# EAGLE library part 10M16SCE144 (library kiks-ic)
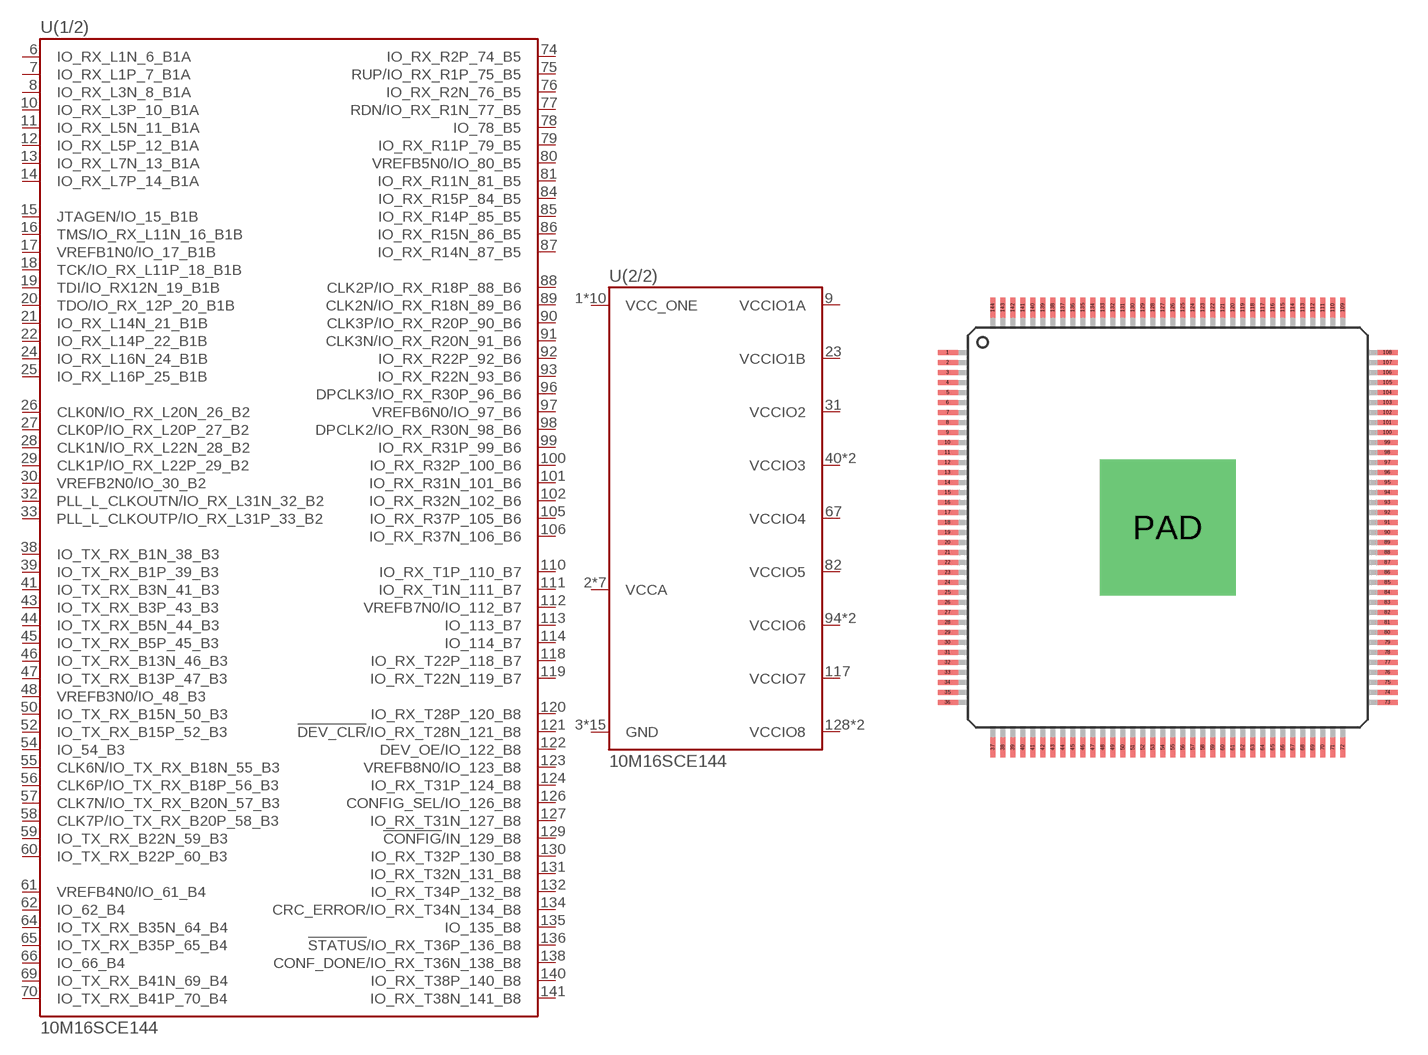
[diagram p10: symbol with the pads of QFP144-0.5-PAD; footprint QFP144-0.5-PAD]

Designator prefix U; gates (1/2)=10M16SCE144_IO (2/2)=10MXXSCE144_POWER

## 10M16SCE144  [QFP144-0.5-PAD]
1  (2/2):VCC_ONE
2  (2/2):VCCA
3  (2/2):GND
4  (2/2):GND
5  (2/2):VCCA
6  (1/2):IO_RX_L1N_6_B1A
7  (1/2):IO_RX_L1P_7_B1A
8  (1/2):IO_RX_L3N_8_B1A
9  (2/2):VCCIO1A
10  (1/2):IO_RX_L3P_10_B1A
11  (1/2):IO_RX_L5N_11_B1A
12  (1/2):IO_RX_L5P_12_B1A
13  (1/2):IO_RX_L7N_13_B1A
14  (1/2):IO_RX_L7P_14_B1A
15  (1/2):JTAGEN/IO_15_B1B
16  (1/2):TMS/IO_RX_L11N_16_B1B
17  (1/2):VREFB1N0/IO_17_B1B
18  (1/2):TCK/IO_RX_L11P_18_B1B
19  (1/2):TDI/IO_RX12N_19_B1B
20  (1/2):TDO/IO_RX_12P_20_B1B
21  (1/2):IO_RX_L14N_21_B1B
22  (1/2):IO_RX_L14P_22_B1B
23  (2/2):VCCIO1B
24  (1/2):IO_RX_L16N_24_B1B
25  (1/2):IO_RX_L16P_25_B1B
26  (1/2):CLK0N/IO_RX_L20N_26_B2
27  (1/2):CLK0P/IO_RX_L20P_27_B2
28  (1/2):CLK1N/IO_RX_L22N_28_B2
29  (1/2):CLK1P/IO_RX_L22P_29_B2
30  (1/2):VREFB2N0/IO_30_B2
31  (2/2):VCCIO2
32  (1/2):PLL_L_CLKOUTN/IO_RX_L31N_32_B2
33  (1/2):PLL_L_CLKOUTP/IO_RX_L31P_33_B2
34  (2/2):VCCA
35  (2/2):VCCA
36  (2/2):VCC_ONE
37  (2/2):VCC_ONE
38  (1/2):IO_TX_RX_B1N_38_B3
39  (1/2):IO_TX_RX_B1P_39_B3
40  (2/2):VCCIO3
41  (1/2):IO_TX_RX_B3N_41_B3
42  (2/2):GND
43  (1/2):IO_TX_RX_B3P_43_B3
44  (1/2):IO_TX_RX_B5N_44_B3
45  (1/2):IO_TX_RX_B5P_45_B3
46  (1/2):IO_TX_RX_B13N_46_B3
47  (1/2):IO_TX_RX_B13P_47_B3
48  (1/2):VREFB3N0/IO_48_B3
49  (2/2):VCCIO3
50  (1/2):IO_TX_RX_B15N_50_B3
51  (2/2):VCC_ONE
52  (1/2):IO_TX_RX_B15P_52_B3
53  (2/2):GND
54  (1/2):IO_54_B3
55  (1/2):CLK6N/IO_TX_RX_B18N_55_B3
56  (1/2):CLK6P/IO_TX_RX_B18P_56_B3
57  (1/2):CLK7N/IO_TX_RX_B20N_57_B3
58  (1/2):CLK7P/IO_TX_RX_B20P_58_B3
59  (1/2):IO_TX_RX_B22N_59_B3
60  (1/2):IO_TX_RX_B22P_60_B3
61  (1/2):VREFB4N0/IO_61_B4
62  (1/2):IO_62_B4
63  (2/2):GND
64  (1/2):IO_TX_RX_B35N_64_B4
65  (1/2):IO_TX_RX_B35P_65_B4
66  (1/2):IO_66_B4
67  (2/2):VCCIO4
68  (2/2):GND
69  (1/2):IO_TX_RX_B41N_69_B4
70  (1/2):IO_TX_RX_B41P_70_B4
71  (2/2):VCCA
72  (2/2):VCC_ONE
73  (2/2):VCC_ONE
74  (1/2):IO_RX_R2P_74_B5
75  (1/2):RUP/IO_RX_R1P_75_B5
76  (1/2):IO_RX_R2N_76_B5
77  (1/2):RDN/IO_RX_R1N_77_B5
78  (1/2):IO_78_B5
79  (1/2):IO_RX_R11P_79_B5
80  (1/2):VREFB5N0/IO_80_B5
81  (1/2):IO_RX_R11N_81_B5
82  (2/2):VCCIO5
83  (2/2):GND
84  (1/2):IO_RX_R15P_84_B5
85  (1/2):IO_RX_R14P_85_B5
86  (1/2):IO_RX_R15N_86_B5
87  (1/2):IO_RX_R14N_87_B5
88  (1/2):CLK2P/IO_RX_R18P_88_B6
89  (1/2):CLK2N/IO_RX_R18N_89_B6
90  (1/2):CLK3P/IO_RX_R20P_90_B6
91  (1/2):CLK3N/IO_RX_R20N_91_B6
92  (1/2):IO_RX_R22P_92_B6
93  (1/2):IO_RX_R22N_93_B6
94  (2/2):VCCIO6
95  (2/2):GND
96  (1/2):DPCLK3/IO_RX_R30P_96_B6
97  (1/2):VREFB6N0/IO_97_B6
98  (1/2):DPCLK2/IO_RX_R30N_98_B6
99  (1/2):IO_RX_R31P_99_B6
100  (1/2):IO_RX_R32P_100_B6
101  (1/2):IO_RX_R31N_101_B6
102  (1/2):IO_RX_R32N_102_B6
103  (2/2):VCCIO6
104  (2/2):GND
105  (1/2):IO_RX_R37P_105_B6
106  (1/2):IO_RX_R37N_106_B6
107  (2/2):VCCA
108  (2/2):VCC_ONE
109  (2/2):VCC_ONE
110  (1/2):IO_RX_T1P_110_B7
111  (1/2):IO_RX_T1N_111_B7
112  (1/2):VREFB7N0/IO_112_B7
113  (1/2):IO_113_B7
114  (1/2):IO_114_B7
115  (2/2):VCC_ONE
116  (2/2):GND
117  (2/2):VCCIO7
118  (1/2):IO_RX_T22P_118_B7
119  (1/2):IO_RX_T22N_119_B7
120  (1/2):IO_RX_T28P_120_B8
121  (1/2):!DEV_CLR!/IO_RX_T28N_121_B8
122  (1/2):DEV_OE/IO_122_B8
123  (1/2):VREFB8N0/IO_123_B8
124  (1/2):IO_RX_T31P_124_B8
125  (2/2):GND
126  (1/2):CONFIG_SEL/IO_126_B8
127  (1/2):IO_RX_T31N_127_B8
128  (2/2):VCCIO8
129  (1/2):!CONFIG!/IN_129_B8  in
130  (1/2):IO_RX_T32P_130_B8
131  (1/2):IO_RX_T32N_131_B8
132  (1/2):IO_RX_T34P_132_B8
133  (2/2):GND
134  (1/2):CRC_ERROR/IO_RX_T34N_134_B8
135  (1/2):IO_135_B8
136  (1/2):!STATUS!/IO_RX_T36P_136_B8
137  (2/2):GND
138  (1/2):CONF_DONE/IO_RX_T36N_138_B8
139  (2/2):VCCIO8
140  (1/2):IO_RX_T38P_140_B8
141  (1/2):IO_RX_T38N_141_B8
142  (2/2):GND
143  (2/2):VCCA
144  (2/2):VCC_ONE
PAD  (2/2):GND

## Footprint QFP144-0.5-PAD (pad centres in mm)
smd 1 x 0.25: 1 -11,8.75; 2 -11,8.25; 3 -11,7.75; 4 -11,7.25; 5 -11,6.75; 6 -11,6.25; 7 -11,5.75; 8 -11,5.25; 9 -11,4.75; 10 -11,4.25; 11 -11,3.75; 12 -11,3.25; 13 -11,2.75; 14 -11,2.25; 15 -11,1.75; 16 -11,1.25; 17 -11,0.75; 18 -11,0.25; 19 -11,-0.25; 20 -11,-0.75; 21 -11,-1.25; 22 -11,-1.75; 23 -11,-2.25; 24 -11,-2.75; 25 -11,-3.25; 26 -11,-3.75; 27 -11,-4.25; 28 -11,-4.75; 29 -11,-5.25; 30 -11,-5.75; 31 -11,-6.25; 32 -11,-6.75; 33 -11,-7.25; 34 -11,-7.75; 35 -11,-8.25; 36 -11,-8.75; 73 11,-8.75; 74 11,-8.25; 75 11,-7.75; 76 11,-7.25; 77 11,-6.75; 78 11,-6.25; 79 11,-5.75; 80 11,-5.25; 81 11,-4.75; 82 11,-4.25; 83 11,-3.75; 84 11,-3.25; 85 11,-2.75; 86 11,-2.25; 87 11,-1.75; 88 11,-1.25; 89 11,-0.75; 90 11,-0.25; 91 11,0.25; 92 11,0.75; 93 11,1.25; 94 11,1.75; 95 11,2.25; 96 11,2.75; 97 11,3.25; 98 11,3.75; 99 11,4.25; 100 11,4.75; 101 11,5.25; 102 11,5.75; 103 11,6.25; 104 11,6.75; 105 11,7.25; 106 11,7.75; 107 11,8.25; 108 11,8.75
smd 0.25 x 1: 37 -8.75,-11; 38 -8.25,-11; 39 -7.75,-11; 40 -7.25,-11; 41 -6.75,-11; 42 -6.25,-11; 43 -5.75,-11; 44 -5.25,-11; 45 -4.75,-11; 46 -4.25,-11; 47 -3.75,-11; 48 -3.25,-11; 49 -2.75,-11; 50 -2.25,-11; 51 -1.75,-11; 52 -1.25,-11; 53 -0.75,-11; 54 -0.25,-11; 55 0.25,-11; 56 0.75,-11; 57 1.25,-11; 58 1.75,-11; 59 2.25,-11; 60 2.75,-11; 61 3.25,-11; 62 3.75,-11; 63 4.25,-11; 64 4.75,-11; 65 5.25,-11; 66 5.75,-11; 67 6.25,-11; 68 6.75,-11; 69 7.25,-11; 70 7.75,-11; 71 8.25,-11; 72 8.75,-11; 109 8.75,11; 110 8.25,11; 111 7.75,11; 112 7.25,11; 113 6.75,11; 114 6.25,11; 115 5.75,11; 116 5.25,11; 117 4.75,11; 118 4.25,11; 119 3.75,11; 120 3.25,11; 121 2.75,11; 122 2.25,11; 123 1.75,11; 124 1.25,11; 125 0.75,11; 126 0.25,11; 127 -0.25,11; 128 -0.75,11; 129 -1.25,11; 130 -1.75,11; 131 -2.25,11; 132 -2.75,11; 133 -3.25,11; 134 -3.75,11; 135 -4.25,11; 136 -4.75,11; 137 -5.25,11; 138 -5.75,11; 139 -6.25,11; 140 -6.75,11; 141 -7.25,11; 142 -7.75,11; 143 -8.25,11; 144 -8.75,11
drill 5 pad 6.8 square: PAD 0,0